# EAGLE library part HDR-100-07 (library con-molex-kk)
HEADER
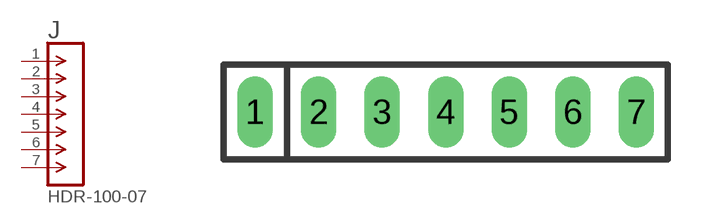
[diagram p156: symbol with the pads of HDR-100-07; footprint HDR-100-07]

Designator prefix J

## HDR-100-07  [HDR-100-07]
1  1  pas
2  2  pas
3  3  pas
4  4  pas
5  5  pas
6  6  pas
7  7  pas

## Footprint HDR-100-07 (pad centres in mm)
HEADER - pitch 0.1"
drill 0.914 long: 1 -7.62,0; 2 -5.08,0; 3 -2.54,0; 4 0,0; 5 2.54,0; 6 5.08,0; 7 7.62,0